# EAGLE library part ICL7612DCPAZ (library Intersil_By_element14_Batch_1)
Low Power CMOS Operational Amplifiers
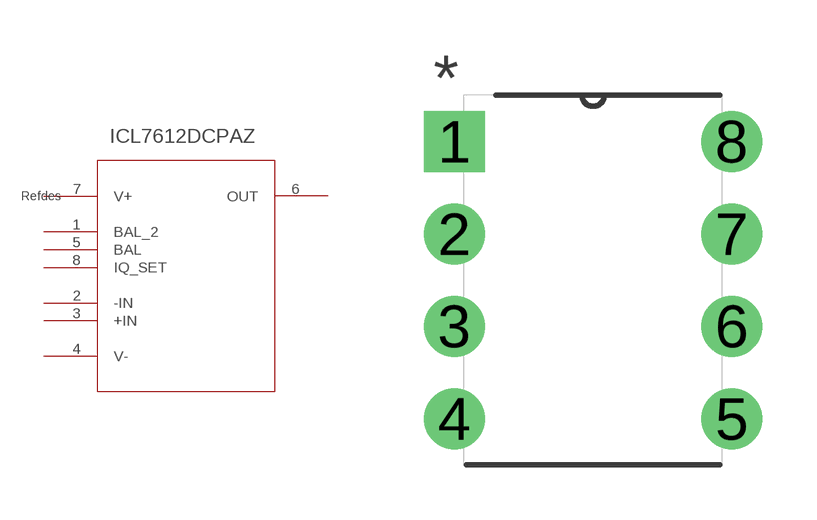
[diagram p176: symbol with the pads of DIP254P762X533-8; footprint DIP254P762X533-8]

Designator prefix U

## ICL7612DCPAZ (MPN: ICL7612DCPAZ; OC_FARNELL: 1216123; OC_NEWARK: 79K6922; PACKAGE: PDIP-8; SUPPLIER: Intersil)  [DIP254P762X533-8]
1  BAL_2  pas
2  -IN  in
3  +IN  in
4  V-  pwr
5  BAL  pas
6  OUT  out
7  V+  pwr
8  IQ_SET  pas

## Footprint DIP254P762X533-8 (pad centres in mm)
drill 1.118 square: 1 -7.62,7.62
drill 1.118: 2 -7.62,5.08; 3 -7.62,2.54; 4 -7.62,0; 5 0,0; 6 0,2.54; 7 0,5.08; 8 0,7.62